# Altium schematic symbol library MQ6.SchLib: 1 symbol
Pins are listed as number, name and electrical type; pins without a type are passive.

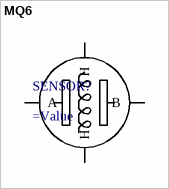
[diagram p0: symbol MQ6]

## MQ6
designator SENSOR?
=Description
pins: 1 H, 2 H, 3 A, 4 B